# EAGLE library part BCM857 (library _mtvl.transistors)
PNP matched double transistors https://assets.nexperia.com/documents/data-sheet/BCM857BV_BS_DS.pdf
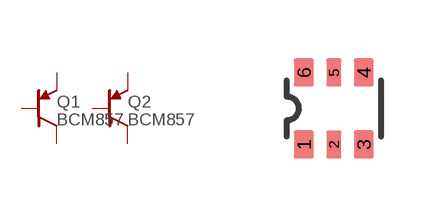
[diagram p4: symbol with the pads of SOT363; footprint SOT363]

Designator prefix Q; gates 1=PNP-2 2=PNP-2

## BCM857BS  [SOT363]
1  1:E
2  1:B
3  2:C
4  2:E
5  2:B
6  1:C

## Footprint SOT363 (pad centres in mm)
smd 0.5 x 0.7: 1 -0.75,-0.9; 3 0.75,-0.9; 4 0.75,0.9; 6 -0.75,0.9
smd 0.38 x 0.7: 2 0,-0.9; 5 0,0.9